# Altium footprint library MX23A40NF1.PcbLib: 1 footprints
Each footprint in its own frame and in the unit in brackets; x right, y up, seen from the top. Pads: shape width x height; smd on the part's side, far side on the other; paste and mask are expansions set on the pad; w line width, h text height; cw(c..) or ccw(c..) is an arc to the next point about the centre after c.
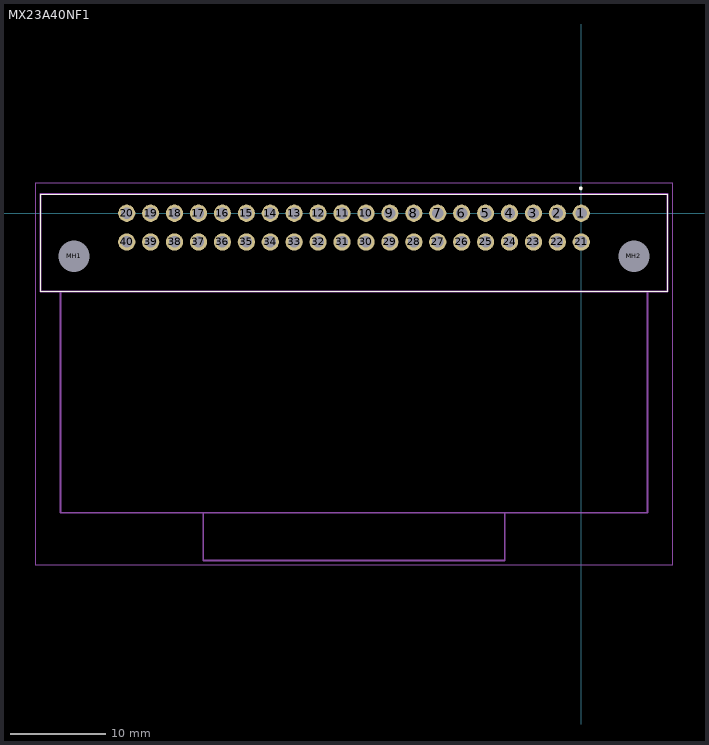
[diagram p0: the footprint, top view; thin cyan lines are the x and y axes]

## MX23A40NF1 [mm]
pads (42):
  round 1.8 hole 1.2: 1(0,0) 2(-2.5,0) 3(-5,0) 4(-7.5,0) 5(-10,0) 6(-12.5,0) 7(-15,0) 8(-17.5,0) 9(-20,0) 10(-22.5,0) 11(-25,0) 12(-27.5,0) 13(-30,0) 14(-32.5,0) 15(-35,0) 16(-37.5,0) 17(-40,0) 18(-42.5,0) 19(-45,0) 20(-47.5,0) 21(0,-3) 22(-2.5,-3) 23(-5,-3) 24(-7.5,-3) 25(-10,-3) 26(-12.5,-3) 27(-15,-3) 28(-17.5,-3) 29(-20,-3) 30(-22.5,-3) 31(-25,-3) 32(-27.5,-3) 33(-30,-3) 34(-32.5,-3) 35(-35,-3) 36(-37.5,-3) 37(-40,-3) 38(-42.5,-3) 39(-45,-3) 40(-47.5,-3)
  round 1.625 hole 3.25 unplated: MH1(-53,-4.5) MH2(5.5,-4.5)
Top Overlay:
  lines w0.1: -56.5,-8.2 9,-8.2 9,2 -56.5,2 -56.5,-8.2
  lines w0.2: -0.15,2.6 -0.15,2.6 ; -0.15,2.6 ccw(c-0.05,2.6) 0.05,2.6 ; -0.15,2.6 cw(c-0.05,2.6) 0.05,2.6 ; 0.05,2.6 0.05,2.6
Mechanical 15:
  lines w0.2: -56.5,-8.2 9,-8.2 9,2 -56.5,2 -56.5,-8.2 ; -54.4,-31.3 6.9,-31.3 6.9,-8.2 -54.4,-8.2 -54.4,-31.3 ; -39.5,-36.3 -8,-36.3 -8,-31.3 -39.5,-31.3 -39.5,-36.3
Mechanical 20:
  lines w0.1: -57,-36.8 9.5,-36.8 9.5,3.2 -57,3.2 -57,-36.8